# Altium footprint library ET-318.PcbLib: 1 footprints
Each footprint in its own frame and in the unit in brackets; x right, y up, seen from the top. Pads: shape width x height; smd on the part's side, far side on the other; paste and mask are expansions set on the pad; w line width, h text height; cw(c..) or ccw(c..) is an arc to the next point about the centre after c.
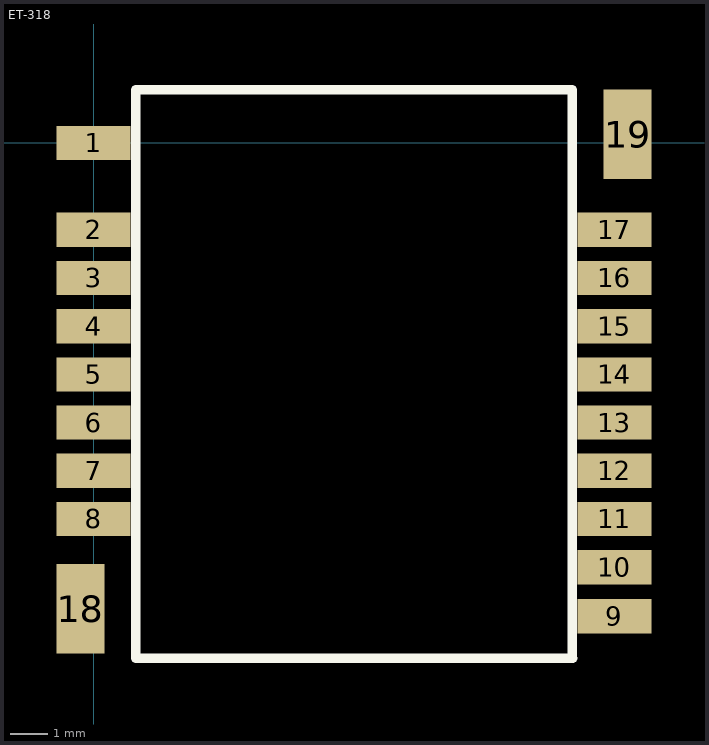
[diagram p0: the footprint, top view; thin cyan lines are the x and y axes]

## ET-318 [mm]
pads (19):
  rect 2x0.92 smd: 1(0,0) 2(0,-2.335) 3(0,-3.63) 4(0,-4.925) 5(0,-6.22) 6(0,-7.515) 7(0,-8.81) 8(0,-10.105) 9(14,-12.72) 10(14,-11.4) 11(14,-10.105) 12(14,-8.81) 13(14,-7.515) 14(14,-6.22) 15(14,-4.925) 16(14,-3.63) 17(14,-2.335)
  rect 1.3x2.4 smd: 18(-0.35,-12.52) 19(14.35,0.23)
Top Overlay:
  lines w0.254: 1.13,-13.85 12.88,-13.85 12.87,-13.84 12.87,-1.87 12.87,1.43 1.13,1.43 1.13,-13.85